# EAGLE library part 12864B (library b0l2)
KS0108 based display. Some have slightly different pinouts so double check!
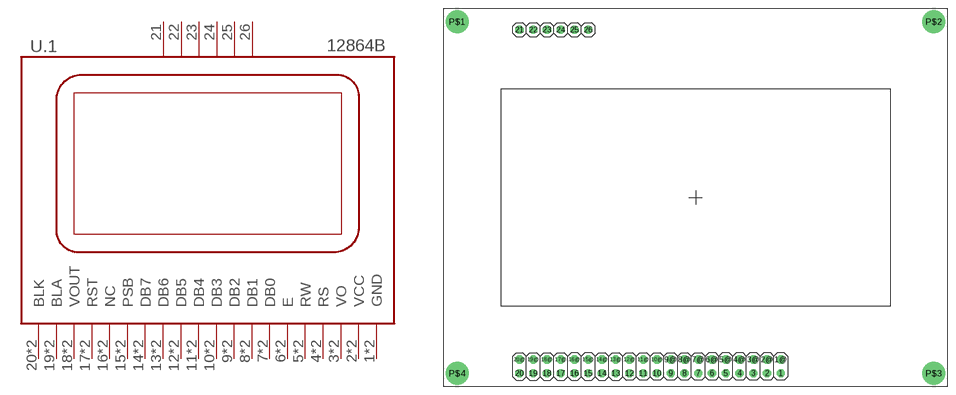
[diagram p1: symbol with the pads of 12864B; footprint 12864B]

Designator prefix -; gates .1=GLCD .2=GLCD_R

## 12864B  [12864B]
1  .1:GND  sup
1@  .1:GND  sup
2  .1:VCC  sup
2@  .1:VCC  sup
3  .1:VO  in
3@  .1:VO  in
4  .1:RS  in
4@  .1:RS  in
5  .1:RW  in
5@  .1:RW  in
6  .1:E  in
6@  .1:E  in
7  .1:DB0
7@  .1:DB0
8  .1:DB1
8@  .1:DB1
9  .1:DB2
9@  .1:DB2
10  .1:DB3
10@  .1:DB3
11  .1:DB4
11@  .1:DB4
12  .1:DB5
12@  .1:DB5
13  .1:DB6
13@  .1:DB6
14  .1:DB7
14@  .1:DB7
15  .1:PSB  in
15@  .1:PSB  in
16  .1:NC  in
16@  .1:NC  in
17  .1:RST  in
17@  .1:RST  in
18  .1:VOUT  sup
18@  .1:VOUT  sup
19  .1:BLA  sup
19@  .1:BLA  sup
20  .1:BLK  in
20@  .1:BLK  in
21  .2:1  sup
22  .2:2  sup
23  .2:3  in
24  .2:4  in
25  .2:5  in
26  .2:6  in

## Footprint 12864B (pad centres in mm)
drill 1.016 octagon: 1 15.76,-32.5; 1@ 15.76,-29.96; 2 13.22,-32.5; 2@ 13.22,-29.96; 3 10.68,-32.5; 3@ 10.68,-29.96; 4 8.14,-32.5; 4@ 8.14,-29.96; 5 5.6,-32.5; 5@ 5.6,-29.96; 6 3.06,-32.5; 6@ 3.06,-29.96; 7 0.52,-32.5; 7@ 0.52,-29.96; 8 -2.02,-32.5; 8@ -2.02,-29.96; 9 -4.56,-32.5; 9@ -4.56,-29.96; 10 -7.1,-32.5; 10@ -7.1,-29.96; 11 -9.64,-32.5; 11@ -9.64,-29.96; 12 -12.18,-32.5; 12@ -12.18,-29.96; 13 -14.72,-32.5; 13@ -14.72,-29.96; 14 -17.26,-32.5; 14@ -17.26,-29.96; 15 -19.8,-32.5; 15@ -19.8,-29.96; 16 -22.34,-32.5; 16@ -22.34,-29.96; 17 -24.88,-32.5; 17@ -24.88,-29.96; 18 -27.42,-32.5; 18@ -27.42,-29.96; 19 -29.96,-32.5; 19@ -29.96,-29.96; 20 -32.5,-32.5; 20@ -32.5,-29.96; 21 -32.5,31; 22 -29.96,31; 23 -27.42,31; 24 -24.88,31; 25 -22.34,31; 26 -19.8,31
drill 3.2 pad 4: P$1 -44,32.5; P$2 44,32.5; P$3 44,-32.5; P$4 -44,-32.5